# Altium footprint library EISI.PcbLib: 695 footprints (part 25 of 44)
Each footprint in its own frame and in the unit in brackets; x right, y up, seen from the top. Pads: shape width x height; smd on the part's side, far side on the other; paste and mask are expansions set on the pad; w line width, h text height; cw(c..) or ccw(c..) is an arc to the next point about the centre after c.
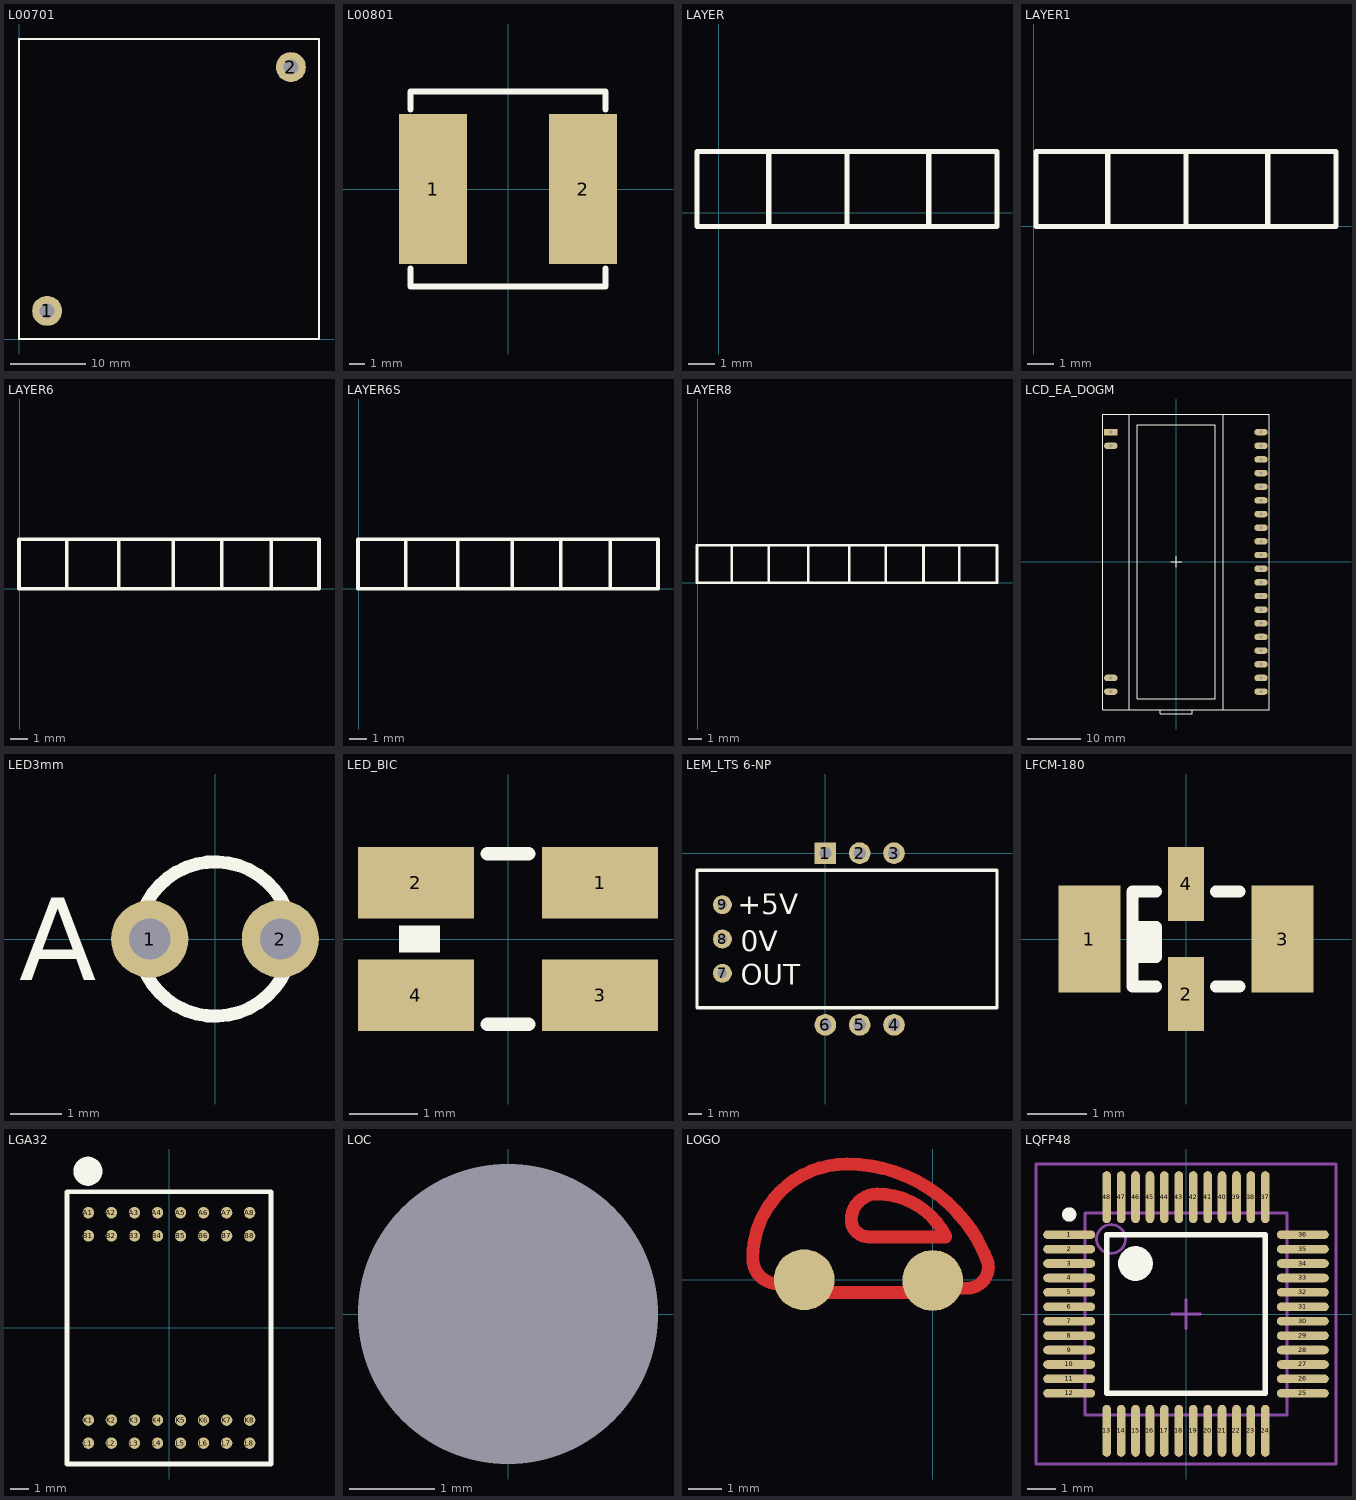
[diagram p24: the footprints below, top view; thin cyan lines are the x and y axes]

## L00701 [mm] "Inductance 40 x 40mm"
height 20
pads (2):
  round 4 hole 2: 1(3.75,3.75) 2(36.25,36.25)
TopOverlay:
  lines w0.254: 0,0 40,0 40,40 0,40 0,0

## L00801 [mm] "HC1 power inductor Coiltronics"
height 10
pads (2):
  rect 4.5x10 smd: 1(-5,0) 2(5,0)
TopOverlay:
  lines w0.4: -6.5,-5.3 -6.5,-6.5 6.5,-6.5 6.5,-5.3 ; -6.5,5.3 -6.5,6.5 6.5,6.5 6.5,5.3

## LAYER [mm]
TopLayer:
  text "1" at 0.203,0 h1.78
BottomLayer:
  text "4" at 8.458,0 h1.78
TopOverlay:
  lines w0.2: 1.854,-0.508 1.854,2.286 ; 4.775,-0.508 4.775,2.286 ; 7.823,-0.508 7.823,2.286 ; -0.813,-0.508 10.363,-0.508 10.363,2.286 -0.813,2.286 -0.813,-0.508
TopSolder:
  lines w0.2: -0.813,-0.508 10.363,-0.508 10.363,2.286 -0.813,2.286 -0.813,-0.508
  lines w0.61: -0.559,2.032 10.109,2.032 10.109,-0.254 -0.432,-0.254 -0.432,1.778 ; -0.178,0.254 9.728,0.254 9.728,0.635 -0.051,0.635 -0.051,1.143 9.855,1.143 9.855,1.524 -0.178,1.524
BottomSolder:
  lines w0.2: -0.813,-0.508 10.363,-0.508 10.363,2.286 -0.813,2.286 -0.813,-0.508
  lines w0.61: -0.559,1.778 -0.559,-0.254 10.109,-0.254 10.109,2.032 -0.559,2.032 ; -0.305,1.651 9.601,1.651 9.601,1.27 -0.178,1.27 -0.178,0.889 9.855,0.889 9.855,0.381 -0.178,0.381 -0.178,0 9.728,0
InternalPlane1:
  lines w0.2: 1.854,-0.508 1.854,2.159 ; 4.775,-0.381 4.775,2.159 ; -0.813,-0.508 10.363,-0.508 10.363,2.286 -0.813,2.286 -0.813,-0.508
  lines w0.61: -0.559,1.778 -0.559,-0.254 1.6,-0.254 1.6,2.032 -0.559,2.032 ; -0.051,1.778 -0.051,0 1.092,0 1.092,1.651 0.457,1.651 0.457,0.254 0.584,0.254 ; 0.711,0.254 0.711,1.778 ; 5.029,1.778 5.029,-0.254 10.109,-0.254 10.109,2.032 5.029,2.032 ; 5.156,1.651 9.601,1.651 9.601,1.27 5.41,1.27 5.41,0.889 9.728,0.889 9.728,0.508 5.283,0.508 5.283,0.127 9.728,0.127
  text "2" at 2.743,0 h1.78
InternalPlane2:
  lines w0.2: 4.775,-0.508 4.775,2.286 ; 7.823,-0.508 7.823,2.286 ; -0.813,-0.508 10.363,-0.508 10.363,2.286 -0.813,2.286 -0.813,-0.508
  lines w0.61: -0.559,1.651 -0.559,-0.254 4.521,-0.254 4.521,2.032 -0.559,2.032 ; -0.432,1.524 4.267,1.524 4.267,0.254 -0.178,0.254 -0.178,0.762 4.013,0.762 4.013,1.143 -0.305,1.143 ; 8.077,1.778 8.077,-0.254 10.109,-0.254 10.109,2.032 8.077,2.032 ; 8.458,1.651 8.458,0.127 9.728,0.127 9.728,1.651 9.347,1.651 9.347,0.381 8.966,0.381 8.966,1.651
  text "3" at 5.791,0 h1.78

## LAYER1 [mm]
TopLayer:
  text "1" at 1.092,0.508 h1.78
BottomLayer:
  text "4" at 9.347,0.508 h1.78
TopOverlay:
  lines w0.2: 2.743,0 2.743,2.794 ; 5.664,0 5.664,2.794 ; 8.712,0 8.712,2.794 ; 0.076,0 0.076,2.794 11.252,2.794 11.252,0 0.076,0
TopSolder:
  lines w0.2: 0.076,0 0.076,2.794 11.252,2.794 11.252,0 0.076,0
  lines w0.61: 0.33,2.54 10.998,2.54 10.998,0.254 0.457,0.254 0.457,2.286 ; 0.711,0.762 10.617,0.762 10.617,1.143 0.838,1.143 0.838,1.651 10.744,1.651 10.744,2.032 0.711,2.032
BottomSolder:
  lines w0.2: 0.076,0 0.076,2.794 11.252,2.794 11.252,0 0.076,0
  lines w0.61: 0.33,2.286 0.33,0.254 10.998,0.254 10.998,2.54 0.33,2.54 ; 0.584,2.159 10.49,2.159 10.49,1.778 0.711,1.778 0.711,1.397 10.744,1.397 10.744,0.889 0.711,0.889 0.711,0.508 10.617,0.508
InternalPlane1:
  lines w0.2: 2.743,0 2.743,2.667 ; 5.664,0.127 5.664,2.667 ; 8.763,0 8.763,2.794 ; 0.076,0 0.076,2.794 11.252,2.794 11.252,0 0.076,0
  lines w0.61: 0.33,2.286 0.33,0.254 2.489,0.254 2.489,2.54 0.33,2.54 ; 0.838,2.286 0.838,0.508 1.981,0.508 1.981,2.159 1.346,2.159 1.346,0.762 1.473,0.762 ; 1.6,0.762 1.6,2.286 ; 2.54,0.254 5.334,0.254 5.334,2.54 2.54,2.54 ; 2.667,1.143 5.08,1.143 ; 2.667,1.651 4.953,1.651 ; 2.794,0.762 4.953,0.762 ; 2.794,2.032 5.08,2.032 ; 9.398,2.286 9.398,0.635 10.795,0.635 ; 9.779,1.016 9.779,2.286 ; 10.16,0.889 10.16,2.286 ; 10.49,1.778 10.49,2.159 ; 10.617,1.016 10.617,1.397 ; 10.795,2.54 9.017,2.54 9.017,0.254 11.049,0.254 ; 10.998,0.254 10.998,2.54
  text "3" at 6.731,0.508 h1.78
InternalPlane2:
  lines w0.2: 2.667,0 2.667,2.794 ; 5.664,0 5.664,2.794 ; 8.712,0 8.712,2.794 ; 0.076,0 0.076,2.794 11.252,2.794 11.252,0 0.076,0
  lines w0.61: 0.33,0.254 0.33,2.159 ; 0.381,2.54 2.413,2.54 2.413,0.254 0.635,0.254 ; 0.508,2.032 2.159,2.032 ; 0.635,0.762 2.286,0.762 ; 0.635,1.27 2.286,1.27 ; 0.635,1.778 2.159,1.778 ; 0.711,0.762 0.711,1.27 ; 6.223,1.016 8.636,1.016 ; 6.223,1.524 8.636,1.524 ; 6.223,2.032 8.636,2.032 ; 6.35,0.635 8.763,0.635 ; 8.763,0.254 5.969,0.254 5.969,2.54 8.89,2.54 ; 8.966,2.286 8.966,0.254 10.998,0.254 10.998,2.54 8.966,2.54 ; 9.347,2.159 9.347,0.635 10.617,0.635 10.617,2.159 10.236,2.159 10.236,0.889 9.855,0.889 9.855,2.159
  text "2" at 3.683,0.508 h1.78

## LAYER6 [mm]
TopLayer:
  text "1" at 0.965,0.508 h1.78
BottomLayer:
  text "6" at 14.859,0.508 h1.78
TopOverlay:
  lines w0.2: 2.616,0 2.616,2.794 ; 5.537,0 5.537,2.794 ; 8.585,0 8.585,2.794 ; 14.097,0 14.097,2.794 ; 11.303,0 11.303,2.794 ; 11.303,0 -0.051,0 -0.051,2.794 11.303,2.794 ; 11.303,0 16.764,0 16.764,2.794 11.303,2.794
TopSolder:
  lines w0.2: -0.051,0 -0.051,2.794 11.125,2.794 11.125,0 -0.051,0
  lines w0.61: 0.203,2.54 10.871,2.54 10.871,0.254 0.33,0.254 0.33,2.286 ; 0.584,0.762 10.49,0.762 10.49,1.143 0.711,1.143 0.711,1.651 10.617,1.651 10.617,2.032 0.584,2.032 ; 10.668,2.54 16.51,2.54 16.51,0.381 10.795,0.381 ; 11.049,1.143 15.875,1.143 15.875,1.651 11.176,1.651 ; 11.049,2.032 16.256,2.032 16.256,0.762 11.303,0.762
BottomSolder:
  lines w0.2: 10.922,0 16.764,0 16.764,2.794 10.922,2.794 ; -0.051,0 -0.051,2.794 11.125,2.794 11.125,0 -0.051,0
  lines w0.61: 0.203,2.286 0.203,0.254 10.871,0.254 10.871,2.54 0.203,2.54 ; 0.457,2.159 10.363,2.159 10.363,1.778 0.584,1.778 0.584,1.397 10.617,1.397 10.617,0.889 0.584,0.889 0.584,0.508 10.49,0.508 ; 10.541,0.635 16.129,0.635 16.129,2.032 10.795,2.032 ; 10.668,2.54 16.51,2.54 16.51,0.254 10.922,0.254 ; 10.795,1.143 15.748,1.143 15.748,1.524 10.795,1.524
InternalPlane1:
  lines w0.2: 2.616,0 2.616,2.667 ; 5.537,0.127 5.537,2.667 ; 10.795,0 16.764,0 16.764,2.794 10.795,2.794 ; -0.051,0 -0.051,2.794 11.125,2.794 11.125,0 -0.051,0
  lines w0.61: 0.203,2.286 0.203,0.254 2.362,0.254 2.362,2.54 0.203,2.54 ; 0.711,2.286 0.711,0.508 1.854,0.508 1.854,2.159 1.219,2.159 1.219,0.762 1.346,0.762 ; 1.473,0.762 1.473,2.286 ; 5.791,2.286 5.791,0.254 10.871,0.254 10.871,2.54 5.791,2.54 ; 5.918,2.159 10.363,2.159 10.363,1.778 6.172,1.778 6.172,1.397 10.49,1.397 10.49,1.016 6.045,1.016 6.045,0.635 10.49,0.635 ; 10.922,2.159 16.256,2.159 16.256,1.778 11.049,1.778 ; 10.922,2.54 16.383,2.54 16.383,0.381 16.383,0.254 11.176,0.254 ; 11.176,0.762 16.002,0.762 16.002,1.27 11.303,1.27
  text "2" at 3.505,0.508 h1.78
InternalPlane2:
  lines w0.2: 5.537,0 5.537,2.794 ; 8.585,0 8.585,2.794 ; 10.668,0 16.764,0 16.764,2.794 11.049,2.794 ; -0.051,0 -0.051,2.794 11.125,2.794 11.125,0 -0.051,0
  lines w0.61: 0.203,2.159 0.203,0.254 5.283,0.254 5.283,2.54 0.203,2.54 ; 0.33,2.032 5.029,2.032 5.029,0.762 0.584,0.762 0.584,1.27 4.775,1.27 4.775,1.651 0.457,1.651 ; 8.839,2.286 8.839,0.254 10.871,0.254 10.871,2.54 8.839,2.54 ; 9.22,2.159 9.22,0.635 10.49,0.635 10.49,2.159 10.109,2.159 10.109,0.889 9.728,0.889 9.728,2.159 ; 10.668,0.762 16.002,0.762 16.002,2.159 10.922,2.159 ; 10.795,1.778 15.748,1.778 15.748,1.27 10.922,1.27 ; 10.922,0.381 16.51,0.381 16.51,2.54 10.922,2.54
  text "3" at 6.553,0.508 h1.78
InternalPlane3:
  lines w0.2: 8.509,0.127 8.509,2.794 ; 11.303,0.127 11.303,2.667 ; 0,0 16.764,0 16.764,2.794 0,2.794 0,0
  lines w0.61: 0.254,2.032 8.001,2.032 ; 0.508,1.524 7.874,1.524 7.874,1.016 0.762,1.016 0.762,0.635 7.747,0.635 ; 8.001,2.54 0.254,2.54 0.254,0.254 8.255,0.254 8.255,0.381 8.255,2.54 ; 11.557,2.413 11.557,0.381 16.51,0.381 16.51,2.54 11.557,2.54 ; 11.684,1.524 15.875,1.524 15.875,1.397 11.938,1.397 11.938,0.889 16.129,0.889 16.129,2.032 11.684,2.032
  text "4" at 9.271,0.381 h1.78
InternalPlane4:
  lines w0.2: 11.303,0.127 11.303,2.794 ; 14.097,0.127 14.097,2.794 ; 0,0 16.764,0 16.764,2.794 0,2.794 0,0
  lines w0.61: 0.254,2.159 0.254,0.254 11.049,0.254 11.049,2.54 0.254,2.54 ; 0.381,2.159 10.541,2.159 10.541,0.762 0.762,0.762 0.762,1.778 ; 0.762,1.651 10.16,1.651 10.16,1.143 1.016,1.143 ; 14.351,2.286 14.351,0.254 16.51,0.254 16.51,2.54 14.351,2.54 ; 14.859,0.508 14.859,2.286 ; 15.367,0.508 15.367,2.413 ; 15.875,0.635 15.875,2.286 ; 16.129,0.508 16.129,2.159
  text "5" at 12.192,0.508 h1.78

## LAYER6S [mm]
TopLayer:
  text "1" at 0.965,0.508 h1.78
MidLayer1:
  text "2" at 3.505,0.508 h1.78
MidLayer2:
  text "5" at 12.192,0.508 h1.78
BottomLayer:
  text "6" at 14.859,0.508 h1.78
TopOverlay:
  lines w0.203: 2.616,0 2.616,2.794 ; 5.537,0 5.537,2.794 ; 8.585,0 8.585,2.794 ; 14.097,0 14.097,2.794 ; 11.303,0 16.764,0 16.764,2.794 11.303,2.794 ; 11.303,0 -0.051,0 -0.051,2.794 11.303,2.794 ; 11.303,0 11.303,2.794
TopSolder:
  lines w0.203: -0.051,0 11.125,0 11.125,2.794 -0.051,2.794 -0.051,0
  lines w0.61: 0.203,2.54 10.871,2.54 10.871,0.254 0.33,0.254 0.33,2.286 ; 0.584,0.762 10.49,0.762 10.49,1.143 0.711,1.143 0.711,1.651 10.617,1.651 10.617,2.032 0.584,2.032 ; 10.668,2.54 16.51,2.54 16.51,0.381 10.795,0.381 ; 11.049,1.143 15.875,1.143 15.875,1.651 11.176,1.651 ; 11.049,2.032 16.256,2.032 16.256,0.762 11.303,0.762
BottomSolder:
  lines w0.203: 10.922,0 16.764,0 16.764,2.794 10.922,2.794 ; -0.051,0 11.125,0 11.125,2.794 -0.051,2.794 -0.051,0
  lines w0.61: 0.203,2.286 0.203,0.254 10.871,0.254 10.871,2.54 0.203,2.54 ; 0.457,2.159 10.363,2.159 10.363,1.778 ; 0.584,1.778 0.584,1.397 10.617,1.397 10.617,0.889 0.584,0.889 0.584,0.508 10.49,0.508 ; 10.541,0.635 16.129,0.635 16.129,2.032 10.795,2.032 ; 10.668,2.54 16.51,2.54 16.51,0.254 10.922,0.254 ; 10.795,1.143 15.748,1.143 15.748,1.524 10.795,1.524
InternalPlane1:
  lines w0.203: 2.616,0 2.616,2.667 ; 5.537,0 5.537,2.794 ; 5.537,0.127 5.537,2.667 ; 8.585,0 8.585,2.794 ; 10.668,0 16.764,0 ; 10.795,0 16.764,0 ; 10.795,2.794 16.764,2.794 ; 11.049,2.794 16.764,2.794 ; -0.051,0 11.125,0 ; -0.051,0 11.125,0 ; -0.051,0 -0.051,2.794 ; -0.051,0 -0.051,2.794 ; -0.051,2.794 11.125,2.794 ; -0.051,2.794 11.125,2.794 ; 11.125,0 11.125,2.794 ; 16.764,0 16.764,2.794 ; 16.764,0 16.764,2.794
  lines w0.61: 0.203,2.159 0.203,0.254 5.283,0.254 5.283,2.54 0.203,2.54 ; 0.33,2.032 5.029,2.032 5.029,0.762 0.584,0.762 0.584,1.27 4.775,1.27 4.775,1.651 0.457,1.651 ; 8.839,2.286 8.839,0.254 10.871,0.254 10.871,2.54 8.839,2.54 ; 9.22,2.159 9.22,0.635 10.49,0.635 10.49,2.159 10.109,2.159 10.109,0.889 9.728,0.889 9.728,2.159 ; 10.668,0.762 16.002,0.762 16.002,2.159 10.922,2.159 ; 10.795,1.778 15.748,1.778 15.748,1.27 10.922,1.27 ; 10.922,0.381 16.51,0.381 16.51,2.54 10.922,2.54
  text "3" at 6.553,0.508 h1.78
InternalPlane2:
  lines w0.203: 8.509,0.127 8.509,2.794 ; 11.303,0.127 11.303,2.667 ; 0,0 16.764,0 16.764,2.794 0,2.794 0,0
  lines w0.61: 1.27,1.397 7.493,1.397 7.493,1.778 0.889,1.778 0.889,1.143 7.493,1.143 7.493,2.159 0.508,2.159 0.508,0.635 0.889,0.635 7.874,0.635 7.874,2.54 0.254,2.54 0.254,0.254 8.255,0.254 8.255,2.54 ; 11.557,2.54 11.557,0.254 16.51,0.254 16.51,2.54 11.938,2.54 ; 11.811,2.159 16.129,2.159 16.129,0.635 12.192,0.635 11.938,0.635 11.938,1.651 15.748,1.651 15.748,0.889 12.192,0.889 12.192,1.397 15.875,1.397
  text "4" at 9.271,0.381 h1.78

## LAYER8 [mm]
TopLayer:
  text "1" at 0.965,0.508 h1.78
MidLayer1:
  text "2" at 3.302,0.508 h1.78
MidLayer2:
  text "7" at 17.526,0.381 h1.78
MidLayer3:
  text "6" at 14.605,0.508 h1.78
MidLayer6:
  lines w0.2: 13.589,2.794 19.431,2.794 19.431,0 13.716,0
BottomLayer:
  text "8" at 20.193,0.508 h1.78
TopOverlay:
  lines w0.2: 2.54,0 2.54,2.794 ; 5.283,0 5.283,2.794 ; 8.204,0 8.204,2.794 ; 11.176,0 14.097,0 ; 11.176,2.794 14.097,2.794 ; 11.252,0 11.252,2.794 ; 11.303,0 -0.051,0 -0.051,2.794 11.303,2.794 ; 16.764,0 16.764,2.794 ; 19.431,0 19.431,2.794 ; 19.431,0 22.225,0 22.225,2.794 19.431,2.794 ; 19.431,0 13.97,0 13.97,2.794 19.431,2.794
TopSolder:
  lines w0.2: 10.922,2.794 22.225,2.794 22.225,0 11.049,0 ; 11.125,0 -0.051,0 -0.051,2.794 11.125,2.794 ; 13.792,0 13.792,2.794
  lines w0.61: 0.203,2.54 10.871,2.54 ; 0.33,2.286 0.33,0.254 10.871,0.254 ; 0.584,0.762 10.49,0.762 ; 0.584,2.032 10.617,2.032 ; 10.033,0.635 21.463,0.635 21.463,2.159 10.287,2.159 ; 10.16,1.651 21.209,1.651 21.209,1.143 10.287,1.143 ; 10.287,2.54 21.971,2.54 21.971,0.254 11.049,0.254 ; 10.49,1.143 0.711,1.143 0.711,1.651 10.617,1.651 ; 13.157,0.762 13.157,1.143 ; 13.284,1.651 13.284,2.032 ; 13.335,2.54 19.177,2.54 19.177,0.381 13.462,0.381 ; 13.538,0.254 13.538,2.54 ; 13.716,1.143 18.542,1.143 18.542,1.651 13.843,1.651 ; 13.716,2.032 18.923,2.032 18.923,0.762 13.97,0.762
BottomSolder:
  lines w0.2: 10.414,0 22.225,0 22.225,2.794 10.541,2.794 ; 11.125,0 -0.051,0 -0.051,2.794 11.125,2.794 ; 13.589,0 19.431,0 19.431,2.794 13.589,2.794 ; 13.792,0 13.792,2.794
  lines w0.61: 0.203,2.286 0.203,0.254 10.871,0.254 ; 0.203,2.54 10.871,2.54 ; 0.457,2.159 10.363,2.159 ; 10.16,0.254 21.844,0.254 21.844,2.54 10.414,2.54 ; 10.287,0.762 21.717,0.762 21.717,2.032 10.287,2.032 ; 10.287,1.524 21.463,1.524 21.463,1.143 10.668,1.143 ; 10.363,1.778 0.584,1.778 0.584,1.397 10.617,1.397 ; 10.49,0.508 0.584,0.508 0.584,0.889 10.617,0.889 ; 13.03,1.778 13.03,2.159 ; 13.208,0.635 18.796,0.635 18.796,2.032 13.462,2.032 ; 13.284,0.889 13.284,1.397 ; 13.335,2.54 19.177,2.54 19.177,0.254 13.589,0.254 ; 13.462,1.143 18.415,1.143 18.415,1.524 13.462,1.524 ; 13.538,0.254 13.538,2.54
InternalPlane1:
  lines w0.2: 5.283,0 5.283,2.667 ; 8.204,0.127 8.204,2.667 ; 11.125,0 -0.051,0 -0.051,2.794 11.125,2.794 ; 13.462,0 19.431,0 19.431,2.794 13.462,2.794 ; 13.792,0 13.792,2.794
  lines w0.61: 0.203,2.286 0.203,0.254 2.362,0.254 2.362,2.54 0.203,2.54 ; 0.711,2.286 0.711,0.508 1.854,0.508 1.854,2.159 1.219,2.159 1.219,0.762 1.346,0.762 ; 1.473,0.762 1.473,2.286 ; 2.413,0.381 4.953,0.381 4.953,2.54 2.54,2.54 ; 2.921,1.651 4.445,1.651 ; 3.048,1.27 4.572,1.27 4.572,2.159 2.794,2.159 2.794,0.889 4.826,0.889 ; 4.953,0.254 4.953,0.508 ; 8.458,2.286 8.458,0.254 13.538,0.254 13.538,2.54 8.458,2.54 ; 8.585,2.159 13.03,2.159 13.03,1.778 8.839,1.778 8.839,1.397 13.157,1.397 13.157,1.016 8.712,1.016 8.712,0.635 13.157,0.635 ; 13.589,2.159 18.923,2.159 18.923,1.778 13.716,1.778 ; 13.589,2.54 19.05,2.54 19.05,0.381 19.05,0.254 13.843,0.254 ; 13.843,0.762 18.669,0.762 18.669,1.27 13.97,1.27
  text "3" at 6.172,0.508 h1.78
InternalPlane2:
  lines w0.2: 8.204,0 8.204,2.794 ; 11.125,0 -0.051,0 -0.051,2.794 11.125,2.794 ; 11.252,0 11.252,2.794 ; 13.335,0 19.431,0 19.431,2.794 13.716,2.794 ; 13.792,0 13.792,2.794
  lines w0.61: 0.203,2.159 0.203,0.254 5.283,0.254 ; 0.203,2.54 5.283,2.54 ; 0.33,2.032 5.029,2.032 ; 0.457,1.651 4.775,1.651 ; 4.572,1.524 7.366,1.524 ; 4.775,1.27 0.584,1.27 0.584,0.762 5.029,0.762 ; 4.826,0.762 7.493,0.762 ; 4.826,1.143 7.239,1.143 ; 4.953,2.032 7.493,2.032 ; 5.08,2.413 7.747,2.413 ; 5.334,0.381 7.62,0.381 ; 7.442,1.27 7.442,1.651 ; 7.696,0.762 7.696,2.032 ; 7.95,0.254 7.95,2.54 ; 11.506,2.286 11.506,0.254 13.538,0.254 13.538,2.54 11.506,2.54 ; 11.887,2.159 11.887,0.635 13.157,0.635 13.157,2.159 12.776,2.159 12.776,0.889 12.395,0.889 12.395,2.159 ; 13.335,0.762 18.669,0.762 18.669,2.159 13.589,2.159 ; 13.462,1.778 18.415,1.778 18.415,1.27 13.589,1.27 ; 13.589,0.381 19.177,0.381 19.177,2.54 13.589,2.54
  text "4" at 9.22,0.508 h1.78
InternalPlane3:
  lines w0.2: 11.176,0.127 11.176,2.794 ; 13.97,0.127 13.97,2.667 ; 16.764,0 0,0 0,2.794 16.764,2.794 ; 19.431,0 19.431,2.794
  lines w0.61: 0.254,2.032 8.001,2.032 ; 0.508,1.524 7.874,1.524 ; 7.493,2.286 10.16,2.286 10.16,0.762 7.874,0.762 ; 7.62,1.27 10.16,1.27 ; 7.62,1.778 10.16,1.778 ; 7.747,0.635 0.762,0.635 0.762,1.016 7.874,1.016 ; 7.747,2.54 10.541,2.54 10.541,0.381 7.874,0.381 ; 8.001,2.54 0.254,2.54 0.254,0.254 8.255,0.254 ; 10.541,1.016 10.541,1.524 ; 10.922,0.254 10.922,0.381 10.922,2.54 ; 14.224,2.413 14.224,0.381 19.177,0.381 19.177,2.54 14.224,2.54 ; 14.351,1.524 18.542,1.524 18.542,1.397 14.605,1.397 14.605,0.889 18.796,0.889 18.796,2.032 14.351,2.032
  text "5" at 11.938,0.381 h1.78

## LCD_EA_DOGM [mm]
pads (24):
  rect 2.5x1.2 hole 0.6: 1(-12.19,24.13)
  oval 2.5x1.2 hole 0.6: 2(-12.19,21.59) 19(-12.19,-21.59) 20(-12.19,-24.13) 21(15.75,-24.13) 22(15.75,-21.59) 23(15.75,-19.05) 24(15.75,-16.51) 25(15.75,-13.97) 26(15.75,-11.43) 27(15.75,-8.89) 28(15.75,-6.35) 29(15.75,-3.81) 30(15.75,-1.27) 31(15.75,1.27) 32(15.75,3.81) 33(15.75,6.35) 34(15.75,8.89) 35(15.75,11.43) 36(15.75,13.97) 37(15.75,16.51) 38(15.75,19.05) 39(15.75,21.59) 40(15.75,24.13)
TopOverlay:
  lines w0.2: -8.75,-27.5 -8.75,27.5 ; -3,-27.5 -3,-28.3 3,-28.3 3,-27.5 ; -1,0 1,0 ; 0,-1 0,0.5 0,1 ; 8.75,-27.5 8.75,27.5 ; -13.7,-27.5 -13.7,27.5 17.3,27.5 17.3,-27.5 -13.7,-27.5 ; -7.25,-25.5 -7.25,25.5 7.25,25.5 7.25,-25.5 -7.25,-25.5

## LED3mm [mm]
height 5.8
pads (2):
  round 1.5 hole 0.8: 1(-1.27,0) 2(1.27,0)
TopOverlay:
  circle w0.254: c0,0 r1.5
  text "A" at -3.81,-0.8 h1.6

## LED_BIC [mm] "3.0x2.5mm SURFACE MOUNT DUAL LED LAMP"
height 1.1
pads (4):
  rect 1.7x1.05 smd: 1(1.35,0.825) 2(-1.35,0.825) 3(1.35,-0.825) 4(-1.35,-0.825)
TopOverlay:
  rectangle: -1.6,-0.2 -1,0.2
  lines w0.2: -0.3,-1.25 0.3,-1.25 ; -0.3,1.25 0.3,1.25

## LEM_LTS 6-NP [mm] "LEM LTS 6-NP"
height 24
pads (9):
  rect 1.6x1.6 hole 0.9: 1(0,0)
  round 1.6 hole 0.9: 2(2.54,0) 3(5.08,0) 4(5.08,-12.7) 5(2.54,-12.7) 6(0,-12.7)
  round 1.4 hole 0.7: 7(-7.62,-8.89) 8(-7.62,-6.35) 9(-7.62,-3.81)
TopOverlay:
  lines w0.254: -9.5,-11.43 -9.5,-1.27 12.7,-1.27 12.7,-11.43 1.27,-11.43 -9.5,-11.43
  text "OUT" at -6.25,-9.75 h1.5
  text "0V" at -6.25,-7.25 h1.5
  text "+5V" at -6.5,-4.5 h1.5

## LFCM-180 [mm] "Low Pass Filter"
height 1
pads (4):
  rect 1.04x1.8 smd: 1(-1.625,0) 3(1.625,0)
  rect 0.61x1.245 smd: 2(0,-0.927) 4(0,0.927)
TopOverlay:
  lines w0.2: -0.9,-0.3 -0.5,-0.3 -0.5,0.2 -0.9,0.2 ; -0.7,-0.3 -0.7,0.2 ; -0.5,-0.8 -0.9,-0.8 -0.9,0.8 -0.5,0.8 ; 0.5,-0.8 0.9,-0.8 ; 0.5,0.8 0.9,0.8

## LGA32 [mm] "LTM2881IV-3#PBF - TXRX RS485/RS422 UMODULE 32LGA"
height 3
pads (32):
  round 0.63 smd: A1(-4.445,6.35) A2(-3.175,6.35) A3(-1.905,6.35) A4(-0.635,6.35) A5(0.635,6.35) A6(1.905,6.35) A7(3.175,6.35) A8(4.445,6.35) B1(-4.445,5.08) B2(-3.175,5.08) B3(-1.905,5.08) B4(-0.635,5.08) B5(0.635,5.08) B6(1.905,5.08) B7(3.175,5.08) B8(4.445,5.08) K1(-4.445,-5.08) K2(-3.175,-5.08) K3(-1.905,-5.08) K4(-0.635,-5.08) K5(0.635,-5.08) K6(1.905,-5.08) K7(3.175,-5.08) K8(4.445,-5.08) L1(-4.445,-6.35) L2(-3.175,-6.35) L3(-1.905,-6.35) L4(-0.635,-6.35) L5(0.635,-6.35) L6(1.905,-6.35) L7(3.175,-6.35) L8(4.445,-6.35)
TopOverlay:
  circle w0.8: c-4.464,8.636 r0.4
  lines w0.254: -5.625,-7.5 5.625,-7.5 5.625,7.5 -5.625,7.5 -5.625,-7.5

## LOC [mil]
pads (1):
  round 136 hole 138: ""(0,0)

## LOGO [mm]
pads (2):
  round 1.8 smd: ""(-3.81,0) ""(0,-0.025)
TopLayer:
  lines w0.381: -4.572,-0.127 cw(c-4.572,0.635) -5.334,0.635 cw(c-2.54,0.635) -2.54,3.429 cw(c-2.54,-1.016) 1.637,0.504 ; -3.175,-0.381 -0.762,-0.381 ; 0.381,1.27 -1.905,1.27 cw(c-1.905,1.778) -2.413,1.778 cw(c-1.651,1.778) -1.651,2.54 cw(c-1.651,0.254) 0.386,1.292 ; 0.762,-0.254 1.016,-0.254 ccw(c1.016,0.381) 1.651,0.381

## LQFP48 [mm] "48-Pin Thin Quad Flat Pack 0.5 mm Pitch, IPC Medium Density"
height 1.6
pads (48):
  oval 1.8x0.3 smd: 1(-4.05,2.75) 2(-4.05,2.25) 3(-4.05,1.75) 4(-4.05,1.25) 5(-4.05,0.75) 6(-4.05,0.25) 7(-4.05,-0.25) 8(-4.05,-0.75) 9(-4.05,-1.25) 10(-4.05,-1.75) 11(-4.05,-2.25) 12(-4.05,-2.75) 25(4.05,-2.75) 26(4.05,-2.25) 27(4.05,-1.75) 28(4.05,-1.25) 29(4.05,-0.75) 30(4.05,-0.25) 31(4.05,0.25) 32(4.05,0.75) 33(4.05,1.25) 34(4.05,1.75) 35(4.05,2.25) 36(4.05,2.75)
  oval 0.3x1.8 smd: 13(-2.75,-4.05) 14(-2.25,-4.05) 15(-1.75,-4.05) 16(-1.25,-4.05) 17(-0.75,-4.05) 18(-0.25,-4.05) 19(0.25,-4.05) 20(0.75,-4.05) 21(1.25,-4.05) 22(1.75,-4.05) 23(2.25,-4.05) 24(2.75,-4.05) 37(2.75,4.05) 38(2.25,4.05) 39(1.75,4.05) 40(1.25,4.05) 41(0.75,4.05) 42(0.25,4.05) 43(-0.25,4.05) 44(-0.75,4.05) 45(-1.25,4.05) 46(-1.75,4.05) 47(-2.25,4.05) 48(-2.75,4.05)
TopOverlay:
  circle w0.25: c-4.05,3.45 r0.125
  circle w0.6: c-1.75,1.75 r0.3
  lines w0.2: -2.75,-2.75 -2.75,2.75 2.75,2.75 2.75,-2.75 -2.75,-2.75
Mechanical13:
  circle w0.1: c-2.6,2.6 r0.5
  lines w0.1: -3.5,-3.5 -3.5,3.5 3.5,3.5 3.5,-3.5 -3.5,-3.5
Mechanical15:
  lines w0.1: -0.5,0 0.5,0 ; 0,-0.5 0,0.5 ; -5.2,-5.2 -5.2,5.2 5.2,5.2 5.2,-5.2 -5.2,-5.2
3D body: height 1.6, standoff 0, extent -3.5,-3.5 3.5,3.5